# Altium integrated library memory-hitachi.IntLib: 51 symbols
Pins are listed as number, name and electrical type; pins without a type are passive.

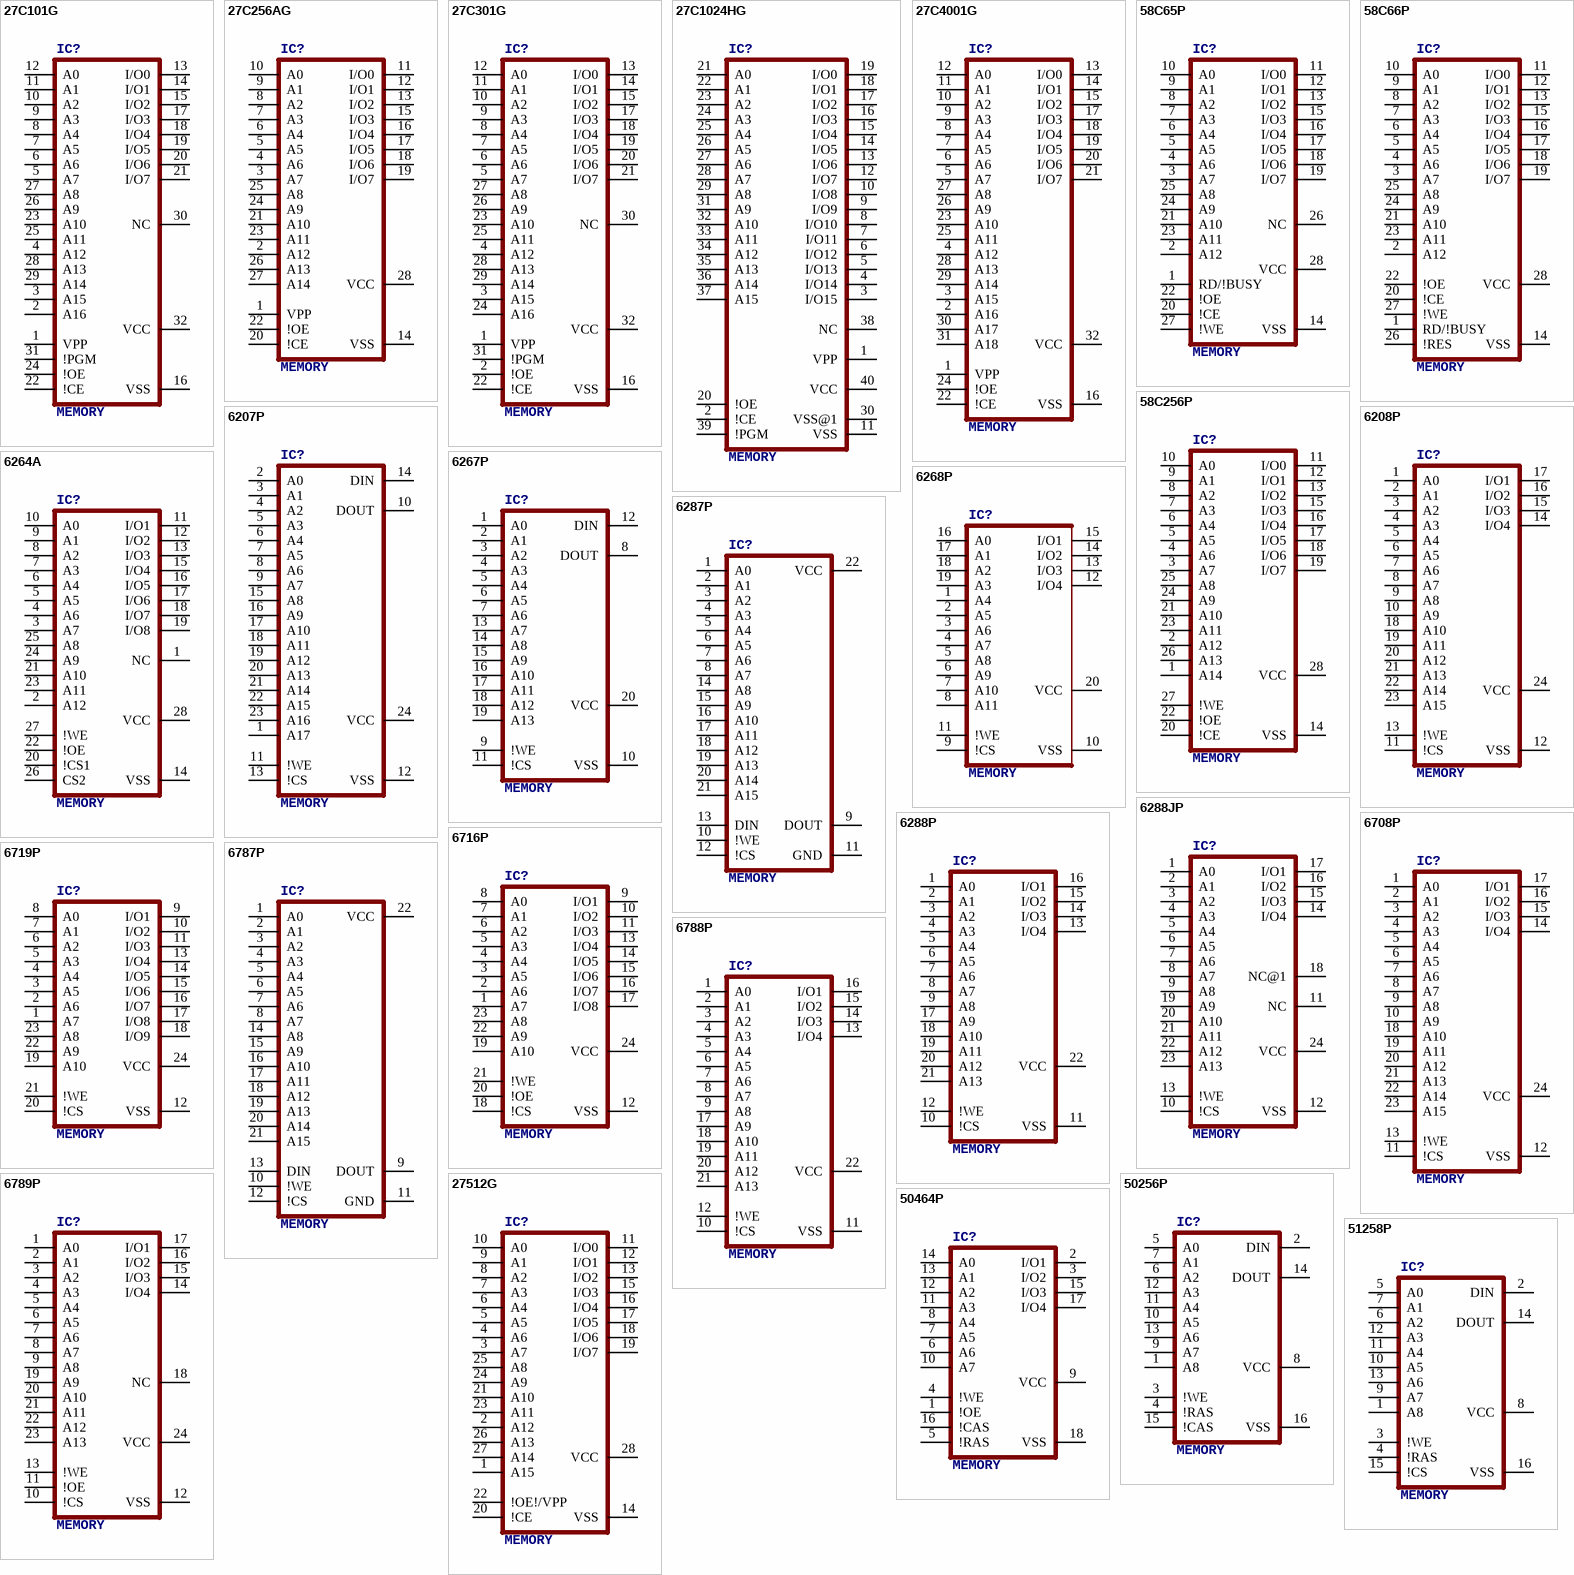
[diagram p0: symbols 27C101G to 51258P]

## 27C101G
designator IC?, comment MEMORY
OC_FARNELL: unknown; OC_NEWARK: unknown
footprint DIL32
pins: 1 VPP, 2 A16, 3 A15, 4 A12, 5 A7, 6 A6, 7 A5, 8 A4, 9 A3, 10 A2, 11 A1, 12 A0, 13 I/O0 (hiz), 14 I/O1 (hiz), 15 I/O2 (hiz), 16 VSS (power), 17 I/O3 (hiz), 18 I/O4 (hiz), 19 I/O5 (hiz), 20 I/O6 (hiz), 21 I/O7 (hiz), 22 !CE, 23 A10, 24 !OE, 25 A11, 26 A9, 27 A8, 28 A13, 29 A14, 30 NC, 31 !PGM, 32 VCC (power)

## 27C256AG
designator IC?, comment MEMORY
OC_FARNELL: unknown; OC_NEWARK: unknown
footprint DIL28-6
pins: 1 VPP, 2 A12, 3 A7, 4 A6, 5 A5, 6 A4, 7 A3, 8 A2, 9 A1, 10 A0, 11 I/O0 (hiz), 12 I/O1 (hiz), 13 I/O2 (hiz), 14 VSS (power), 15 I/O3 (hiz), 16 I/O4 (hiz), 17 I/O5 (hiz), 18 I/O6 (hiz), 19 I/O7 (hiz), 20 !CE, 21 A10, 22 !OE, 23 A11, 24 A9, 25 A8, 26 A13, 27 A14, 28 VCC (power)

## 27C301G
designator IC?, comment MEMORY
OC_FARNELL: unknown; OC_NEWARK: unknown
footprint DIL32
pins: 1 VPP, 2 !OE, 3 A15, 4 A12, 5 A7, 6 A6, 7 A5, 8 A4, 9 A3, 10 A2, 11 A1, 12 A0, 13 I/O0 (hiz), 14 I/O1 (hiz), 15 I/O2 (hiz), 16 VSS (power), 17 I/O3 (hiz), 18 I/O4 (hiz), 19 I/O5 (hiz), 20 I/O6 (hiz), 21 I/O7 (hiz), 22 !CE, 23 A10, 24 A16, 25 A11, 26 A9, 27 A8, 28 A13, 29 A14, 30 NC, 31 !PGM, 32 VCC (power)

## 27C1024HG
designator IC?, comment MEMORY
OC_FARNELL: unknown; OC_NEWARK: unknown
footprint DIL40
pins: 1 VPP, 2 !CE, 3 I/O15 (hiz), 4 I/O14 (hiz), 5 I/O13 (hiz), 6 I/O12 (hiz), 7 I/O11 (hiz), 8 I/O10 (hiz), 9 I/O9 (hiz), 10 I/O8 (hiz), 11 VSS (power), 12 I/O7 (hiz), 13 I/O6 (hiz), 14 I/O5 (hiz), 15 I/O4 (hiz), 16 I/O3 (hiz), 17 I/O2 (hiz), 18 I/O1 (hiz), 19 I/O0 (hiz), 20 !OE, 21 A0, 22 A1, 23 A2, 24 A3, 25 A4, 26 A5, 27 A6, 28 A7, 29 A8, 30 VSS@1 (power), 31 A9, 32 A10, 33 A11, 34 A12, 35 A13, 36 A14, 37 A15, 38 NC, 39 !PGM, 40 VCC (power)

## 27C4001G
designator IC?, comment MEMORY
OC_FARNELL: unknown; OC_NEWARK: unknown
footprint DIL32
pins: 1 VPP, 2 A16, 3 A15, 4 A12, 5 A7, 6 A6, 7 A5, 8 A4, 9 A3, 10 A2, 11 A1, 12 A0, 13 I/O0 (hiz), 14 I/O1 (hiz), 15 I/O2 (hiz), 16 VSS (power), 17 I/O3 (hiz), 18 I/O4 (hiz), 19 I/O5 (hiz), 20 I/O6 (hiz), 21 I/O7 (hiz), 22 !CE, 23 A10, 24 !OE, 25 A11, 26 A9, 27 A8, 28 A13, 29 A14, 30 A17, 31 A18, 32 VCC (power)

## 58C65P
designator IC?, comment MEMORY
OC_FARNELL: unknown; OC_NEWARK: unknown
footprint DIL28-6
pins: 1 RD/!BUSY, 2 A12, 3 A7, 4 A6, 5 A5, 6 A4, 7 A3, 8 A2, 9 A1, 10 A0, 11 I/O0 (hiz), 12 I/O1 (hiz), 13 I/O2 (hiz), 14 VSS (power), 15 I/O3 (hiz), 16 I/O4 (hiz), 17 I/O5 (hiz), 18 I/O6 (hiz), 19 I/O7 (hiz), 20 !CE, 21 A10, 22 !OE, 23 A11, 24 A9, 25 A8, 26 NC, 27 !WE, 28 VCC (power)

## 58C66P
designator IC?, comment MEMORY
OC_FARNELL: unknown; OC_NEWARK: unknown
footprint DIL28-6
pins: 1 RD/!BUSY, 2 A12, 3 A7, 4 A6, 5 A5, 6 A4, 7 A3, 8 A2, 9 A1, 10 A0, 11 I/O0 (hiz), 12 I/O1 (hiz), 13 I/O2 (hiz), 14 VSS (power), 15 I/O3 (hiz), 16 I/O4 (hiz), 17 I/O5 (hiz), 18 I/O6 (hiz), 19 I/O7 (hiz), 20 !CE, 21 A10, 22 !OE, 23 A11, 24 A9, 25 A8, 26 !RES, 27 !WE, 28 VCC (power)

## 58C256P
designator IC?, comment MEMORY
MPN: HN58C256AP85E; OC_FARNELL: 1496447; OC_NEWARK: 61M6616
footprint DIL28-6
pins: 1 A14, 2 A12, 3 A7, 4 A6, 5 A5, 6 A4, 7 A3, 8 A2, 9 A1, 10 A0, 11 I/O0 (hiz), 12 I/O1 (hiz), 13 I/O2 (hiz), 14 VSS (power), 15 I/O3 (hiz), 16 I/O4 (hiz), 17 I/O5 (hiz), 18 I/O6 (hiz), 19 I/O7 (hiz), 20 !CE, 21 A10, 22 !OE, 23 A11, 24 A9, 25 A8, 26 A13, 27 !WE, 28 VCC (power)

## 6207P
designator IC?, comment MEMORY
OC_FARNELL: unknown; OC_NEWARK: unknown
footprint DIL24-3
pins: 1 A17, 2 A0, 3 A1, 4 A2, 5 A3, 6 A4, 7 A5, 8 A6, 9 A7, 10 DOUT (hiz), 11 !WE, 12 VSS (power), 13 !CS, 14 DIN, 15 A8, 16 A9, 17 A10, 18 A11, 19 A12, 20 A13, 21 A14, 22 A15, 23 A16, 24 VCC (power)

## 6208P
designator IC?, comment MEMORY
MPN: L6208N; OC_FARNELL: 1271004; OC_NEWARK: 24M4237
footprint DIL24-3
pins: 1 A0, 2 A1, 3 A2, 4 A3, 5 A4, 6 A5, 7 A6, 8 A7, 9 A8, 10 A9, 11 !CS, 12 VSS (power), 13 !WE, 14 I/O4, 15 I/O3, 16 I/O2, 17 I/O1, 18 A10, 19 A11, 20 A12, 21 A13, 22 A14, 23 A15, 24 VCC (power)

## 6264A
designator IC?, comment MEMORY
OC_FARNELL: 283605; OC_NEWARK: unknown
footprint DIL28-6
pins: 1 NC, 2 A12, 3 A7, 4 A6, 5 A5, 6 A4, 7 A3, 8 A2, 9 A1, 10 A0, 11 I/O1, 12 I/O2, 13 I/O3, 14 VSS (power), 15 I/O4, 16 I/O5, 17 I/O6, 18 I/O7, 19 I/O8, 20 !CS1, 21 A10, 22 !OE, 23 A11, 24 A9, 25 A8, 26 CS2, 27 !WE, 28 VCC (power)

## 6267P
designator IC?, comment MEMORY
OC_FARNELL: unknown; OC_NEWARK: unknown
footprint DIL20
pins: 1 A0, 2 A1, 3 A2, 4 A3, 5 A4, 6 A5, 7 A6, 8 DOUT (hiz), 9 !WE, 10 VSS (power), 11 !CS, 12 DIN, 13 A7, 14 A8, 15 A9, 16 A10, 17 A11, 18 A12, 19 A13, 20 VCC (power)

## 6268P
designator IC?, comment MEMORY
OC_FARNELL: unknown; OC_NEWARK: unknown
footprint DIL20
pins: 1 A4, 2 A5, 3 A6, 4 A7, 5 A8, 6 A9, 7 A10, 8 A11, 9 !CS, 10 VSS (power), 11 !WE, 12 I/O4, 13 I/O3, 14 I/O2, 15 I/O1, 16 A0, 17 A1, 18 A2, 19 A3, 20 VCC (power)

## 6287P
designator IC?, comment MEMORY
OC_FARNELL: unknown; OC_NEWARK: unknown
footprint DIL22-3
pins: 1 A0, 2 A1, 3 A2, 4 A3, 5 A4, 6 A5, 7 A6, 8 A7, 9 DOUT (hiz), 10 !WE, 11 GND (power), 12 !CS, 13 DIN, 14 A8, 15 A9, 16 A10, 17 A11, 18 A12, 19 A13, 20 A14, 21 A15, 22 VCC (power)

## 6288JP
designator IC?, comment MEMORY
OC_FARNELL: unknown; OC_NEWARK: unknown
footprint DIL24-3
pins: 1 A0, 2 A1, 3 A2, 4 A3, 5 A4, 6 A5, 7 A6, 8 A7, 9 A8, 10 !CS, 11 NC, 12 VSS (power), 13 !WE, 14 I/O4, 15 I/O3, 16 I/O2, 17 I/O1, 18 NC@1, 19 A9, 20 A10, 21 A11, 22 A12, 23 A13, 24 VCC (power)

## 6288P
designator IC?, comment MEMORY
OC_FARNELL: unknown; OC_NEWARK: unknown
footprint DIL22-3
pins: 1 A0, 2 A1, 3 A2, 4 A3, 5 A4, 6 A5, 7 A6, 8 A7, 9 A8, 10 !CS, 11 VSS (power), 12 !WE, 13 I/O4, 14 I/O3, 15 I/O2, 16 I/O1, 17 A9, 18 A10, 19 A11, 20 A12, 21 A13, 22 VCC (power)

## 6708P
designator IC?, comment MEMORY
OC_FARNELL: unknown; OC_NEWARK: unknown
footprint DIL24-3
pins: 1 A0, 2 A1, 3 A2, 4 A3, 5 A4, 6 A5, 7 A6, 8 A7, 9 A8, 10 A9, 11 !CS, 12 VSS (power), 13 !WE, 14 I/O4, 15 I/O3, 16 I/O2, 17 I/O1, 18 A10, 19 A11, 20 A12, 21 A13, 22 A14, 23 A15, 24 VCC (power)

## 6716P
designator IC?, comment MEMORY
OC_FARNELL: unknown; OC_NEWARK: unknown
footprint DIL24-3
pins: 1 A7, 2 A6, 3 A5, 4 A4, 5 A3, 6 A2, 7 A1, 8 A0, 9 I/O1, 10 I/O2, 11 I/O3, 12 VSS (power), 13 I/O4, 14 I/O5, 15 I/O6, 16 I/O7, 17 I/O8, 18 !CS, 19 A10, 20 !OE, 21 !WE, 22 A9, 23 A8, 24 VCC (power)

## 6719P
designator IC?, comment MEMORY
OC_FARNELL: unknown; OC_NEWARK: unknown
footprint DIL24-3
pins: 1 A7, 2 A6, 3 A5, 4 A4, 5 A3, 6 A2, 7 A1, 8 A0, 9 I/O1, 10 I/O2, 11 I/O3, 12 VSS (power), 13 I/O4, 14 I/O5, 15 I/O6, 16 I/O7, 17 I/O8, 18 I/O9, 19 A10, 20 !CS, 21 !WE, 22 A9, 23 A8, 24 VCC (power)

## 6787P
designator IC?, comment MEMORY
OC_FARNELL: unknown; OC_NEWARK: unknown
footprint DIL22-3
pins: 1 A0, 2 A1, 3 A2, 4 A3, 5 A4, 6 A5, 7 A6, 8 A7, 9 DOUT (hiz), 10 !WE, 11 GND (power), 12 !CS, 13 DIN, 14 A8, 15 A9, 16 A10, 17 A11, 18 A12, 19 A13, 20 A14, 21 A15, 22 VCC (power)

## 6788P
designator IC?, comment MEMORY
OC_FARNELL: unknown; OC_NEWARK: unknown
footprint DIL22-3
pins: 1 A0, 2 A1, 3 A2, 4 A3, 5 A4, 6 A5, 7 A6, 8 A7, 9 A8, 10 !CS, 11 VSS (power), 12 !WE, 13 I/O4, 14 I/O3, 15 I/O2, 16 I/O1, 17 A9, 18 A10, 19 A11, 20 A12, 21 A13, 22 VCC (power)

## 6789P
designator IC?, comment MEMORY
OC_FARNELL: unknown; OC_NEWARK: unknown
footprint DIL24-3
pins: 1 A0, 2 A1, 3 A2, 4 A3, 5 A4, 6 A5, 7 A6, 8 A7, 9 A8, 10 !CS, 11 !OE, 12 VSS (power), 13 !WE, 14 I/O4, 15 I/O3, 16 I/O2, 17 I/O1, 18 NC, 19 A9, 20 A10, 21 A11, 22 A12, 23 A13, 24 VCC (power)

## 27512G
designator IC?, comment MEMORY
OC_FARNELL: unknown; OC_NEWARK: unknown
footprint DIL28-6
pins: 1 A15, 2 A12, 3 A7, 4 A6, 5 A5, 6 A4, 7 A3, 8 A2, 9 A1, 10 A0, 11 I/O0 (hiz), 12 I/O1 (hiz), 13 I/O2 (hiz), 14 VSS (power), 15 I/O3 (hiz), 16 I/O4 (hiz), 17 I/O5 (hiz), 18 I/O6 (hiz), 19 I/O7 (hiz), 20 !CE, 21 A10, 22 !OE!/VPP, 23 A11, 24 A9, 25 A8, 26 A13, 27 A14, 28 VCC (power)

## 50256P
designator IC?, comment MEMORY
OC_FARNELL: unknown; OC_NEWARK: unknown
footprint DIL16
pins: 1 A8, 2 DIN, 3 !WE, 4 !RAS, 5 A0, 6 A2, 7 A1, 8 VCC (power), 9 A7, 10 A5, 11 A4, 12 A3, 13 A6, 14 DOUT (hiz), 15 !CAS, 16 VSS (power)

## 50464P
designator IC?, comment MEMORY
OC_FARNELL: unknown; OC_NEWARK: unknown
footprint DIL18
pins: 1 !OE, 2 I/O1, 3 I/O2, 4 !WE, 5 !RAS, 6 A6, 7 A5, 8 A4, 9 VCC (power), 10 A7, 11 A3, 12 A2, 13 A1, 14 A0, 15 I/O3, 16 !CAS, 17 I/O4, 18 VSS (power)

## 51258P
designator IC?, comment MEMORY
OC_FARNELL: unknown; OC_NEWARK: unknown
footprint DIL16
pins: 1 A8, 2 DIN, 3 !WE, 4 !RAS, 5 A0, 6 A2, 7 A1, 8 VCC (power), 9 A7, 10 A5, 11 A4, 12 A3, 13 A6, 14 DOUT (hiz), 15 !CS, 16 VSS (power)

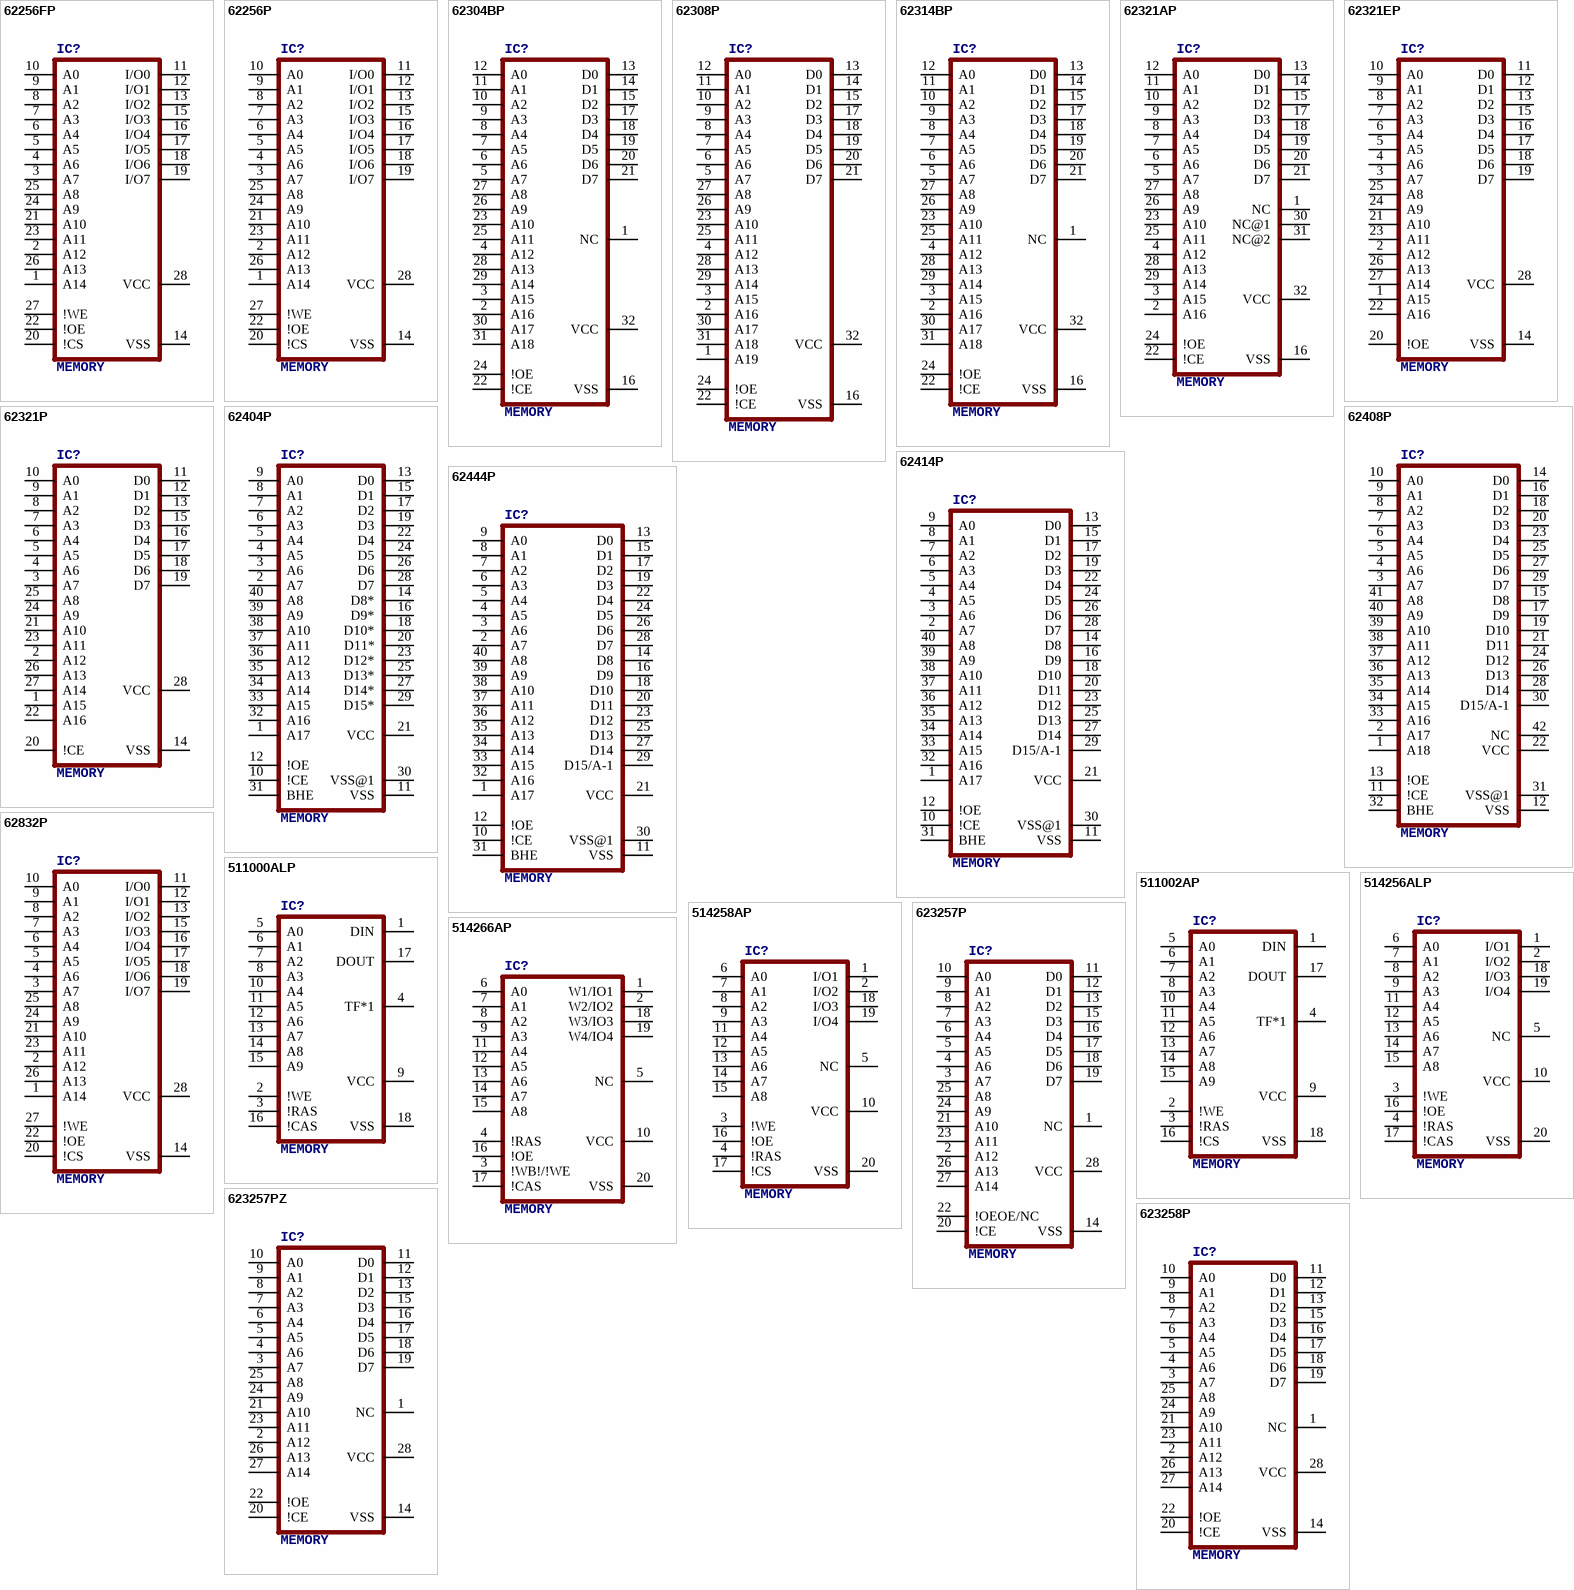
[diagram p1: symbols 62256FP to 623258P]

## 62256FP
designator IC?, comment MEMORY
MPN: CY62256VNLL-70SNXI; OC_FARNELL: 1650073; OC_NEWARK: 19M2582
footprint SO28L
pins: 1 A14, 2 A12, 3 A7, 4 A6, 5 A5, 6 A4, 7 A3, 8 A2, 9 A1, 10 A0, 11 I/O0, 12 I/O1, 13 I/O2, 14 VSS (power), 15 I/O3, 16 I/O4, 17 I/O5, 18 I/O6, 19 I/O7, 20 !CS, 21 A10, 22 !OE, 23 A11, 24 A9, 25 A8, 26 A13, 27 !WE, 28 VCC (power)

## 62256P
designator IC?, comment MEMORY
OC_FARNELL: unknown; OC_NEWARK: unknown
footprint DIL28-6
pins: 1 A14, 2 A12, 3 A7, 4 A6, 5 A5, 6 A4, 7 A3, 8 A2, 9 A1, 10 A0, 11 I/O0, 12 I/O1, 13 I/O2, 14 VSS (power), 15 I/O3, 16 I/O4, 17 I/O5, 18 I/O6, 19 I/O7, 20 !CS, 21 A10, 22 !OE, 23 A11, 24 A9, 25 A8, 26 A13, 27 !WE, 28 VCC (power)

## 62304BP
designator IC?, comment MEMORY
OC_FARNELL: unknown; OC_NEWARK: unknown
footprint DIL32
pins: 1 NC, 2 A16, 3 A15, 4 A12, 5 A7, 6 A6, 7 A5, 8 A4, 9 A3, 10 A2, 11 A1, 12 A0, 13 D0 (hiz), 14 D1 (hiz), 15 D2 (hiz), 16 VSS (power), 17 D3 (hiz), 18 D4 (hiz), 19 D5 (hiz), 20 D6 (hiz), 21 D7 (hiz), 22 !CE, 23 A10, 24 !OE, 25 A11, 26 A9, 27 A8, 28 A13, 29 A14, 30 A17, 31 A18, 32 VCC (power)

## 62308P
designator IC?, comment MEMORY
OC_FARNELL: unknown; OC_NEWARK: unknown
footprint DIL32
pins: 1 A19, 2 A16, 3 A15, 4 A12, 5 A7, 6 A6, 7 A5, 8 A4, 9 A3, 10 A2, 11 A1, 12 A0, 13 D0 (hiz), 14 D1 (hiz), 15 D2 (hiz), 16 VSS (power), 17 D3 (hiz), 18 D4 (hiz), 19 D5 (hiz), 20 D6 (hiz), 21 D7 (hiz), 22 !CE, 23 A10, 24 !OE, 25 A11, 26 A9, 27 A8, 28 A13, 29 A14, 30 A17, 31 A18, 32 VCC (power)

## 62314BP
designator IC?, comment MEMORY
OC_FARNELL: unknown; OC_NEWARK: unknown
footprint DIL32
pins: 1 NC, 2 A16, 3 A15, 4 A12, 5 A7, 6 A6, 7 A5, 8 A4, 9 A3, 10 A2, 11 A1, 12 A0, 13 D0 (hiz), 14 D1 (hiz), 15 D2 (hiz), 16 VSS (power), 17 D3 (hiz), 18 D4 (hiz), 19 D5 (hiz), 20 D6 (hiz), 21 D7 (hiz), 22 !CE, 23 A10, 24 !OE, 25 A11, 26 A9, 27 A8, 28 A13, 29 A14, 30 A17, 31 A18, 32 VCC (power)

## 62321AP
designator IC?, comment MEMORY
OC_FARNELL: unknown; OC_NEWARK: unknown
footprint DIL32
pins: 1 NC, 2 A16, 3 A15, 4 A12, 5 A7, 6 A6, 7 A5, 8 A4, 9 A3, 10 A2, 11 A1, 12 A0, 13 D0 (hiz), 14 D1 (hiz), 15 D2 (hiz), 16 VSS (power), 17 D3 (hiz), 18 D4 (hiz), 19 D5 (hiz), 20 D6 (hiz), 21 D7 (hiz), 22 !CE, 23 A10, 24 !OE, 25 A11, 26 A9, 27 A8, 28 A13, 29 A14, 30 NC@1, 31 NC@2, 32 VCC (power)

## 62321EP
designator IC?, comment MEMORY
OC_FARNELL: unknown; OC_NEWARK: unknown
footprint DIL28-6
pins: 1 A15, 2 A12, 3 A7, 4 A6, 5 A5, 6 A4, 7 A3, 8 A2, 9 A1, 10 A0, 11 D0 (hiz), 12 D1 (hiz), 13 D2 (hiz), 14 VSS (power), 15 D3 (hiz), 16 D4 (hiz), 17 D5 (hiz), 18 D6 (hiz), 19 D7 (hiz), 20 !OE, 21 A10, 22 A16, 23 A11, 24 A9, 25 A8, 26 A13, 27 A14, 28 VCC (power)

## 62321P
designator IC?, comment MEMORY
OC_FARNELL: unknown; OC_NEWARK: unknown
footprint DIL28-6
pins: 1 A15, 2 A12, 3 A7, 4 A6, 5 A5, 6 A4, 7 A3, 8 A2, 9 A1, 10 A0, 11 D0 (hiz), 12 D1 (hiz), 13 D2 (hiz), 14 VSS (power), 15 D3 (hiz), 16 D4 (hiz), 17 D5 (hiz), 18 D6 (hiz), 19 D7 (hiz), 20 !CE, 21 A10, 22 A16, 23 A11, 24 A9, 25 A8, 26 A13, 27 A14, 28 VCC (power)

## 62404P
designator IC?, comment MEMORY
OC_FARNELL: unknown; OC_NEWARK: unknown
footprint DIL42
pins: 1 A17, 2 A7, 3 A6, 4 A5, 5 A4, 6 A3, 7 A2, 8 A1, 9 A0, 10 !CE, 11 VSS (power), 12 !OE, 13 D0 (hiz), 14 D8* (hiz), 15 D1 (hiz), 16 D9* (hiz), 17 D2 (hiz), 18 D10* (hiz), 19 D3 (hiz), 20 D11* (hiz), 21 VCC (power), 22 D4 (hiz), 23 D12* (hiz), 24 D5 (hiz), 25 D13* (hiz), 26 D6 (hiz), 27 D14* (hiz), 28 D7 (hiz), 29 D15* (hiz), 30 VSS@1 (power), 31 BHE, 32 A16, 33 A15, 34 A14, 35 A13, 36 A12, 37 A11, 38 A10, 39 A9, 40 A8

## 62408P
designator IC?, comment MEMORY
OC_FARNELL: unknown; OC_NEWARK: unknown
footprint DIL42
pins: 1 A18, 2 A17, 3 A7, 4 A6, 5 A5, 6 A4, 7 A3, 8 A2, 9 A1, 10 A0, 11 !CE, 12 VSS (power), 13 !OE, 14 D0 (hiz), 15 D8 (hiz), 16 D1 (hiz), 17 D9 (hiz), 18 D2 (hiz), 19 D10 (hiz), 20 D3 (hiz), 21 D11 (hiz), 22 VCC (power), 23 D4 (hiz), 24 D12 (hiz), 25 D5 (hiz), 26 D13 (hiz), 27 D6 (hiz), 28 D14 (hiz), 29 D7 (hiz), 30 D15/A-1 (hiz), 31 VSS@1 (power), 32 BHE, 33 A16, 34 A15, 35 A14, 36 A13, 37 A12, 38 A11, 39 A10, 40 A9, 41 A8, 42 NC

## 62414P
designator IC?, comment MEMORY
OC_FARNELL: unknown; OC_NEWARK: unknown
footprint DIL40
pins: 1 A17, 2 A7, 3 A6, 4 A5, 5 A4, 6 A3, 7 A2, 8 A1, 9 A0, 10 !CE, 11 VSS (power), 12 !OE, 13 D0 (hiz), 14 D8 (hiz), 15 D1 (hiz), 16 D9 (hiz), 17 D2 (hiz), 18 D10 (hiz), 19 D3 (hiz), 20 D11 (hiz), 21 VCC (power), 22 D4 (hiz), 23 D12 (hiz), 24 D5 (hiz), 25 D13 (hiz), 26 D6 (hiz), 27 D14 (hiz), 28 D7 (hiz), 29 D15/A-1 (hiz), 30 VSS@1 (power), 31 BHE, 32 A16, 33 A15, 34 A14, 35 A13, 36 A12, 37 A11, 38 A10, 39 A9, 40 A8

## 62444P
designator IC?, comment MEMORY
OC_FARNELL: unknown; OC_NEWARK: unknown
footprint DIL40
pins: 1 A17, 2 A7, 3 A6, 4 A5, 5 A4, 6 A3, 7 A2, 8 A1, 9 A0, 10 !CE, 11 VSS (power), 12 !OE, 13 D0 (hiz), 14 D8 (hiz), 15 D1 (hiz), 16 D9 (hiz), 17 D2 (hiz), 18 D10 (hiz), 19 D3 (hiz), 20 D11 (hiz), 21 VCC (power), 22 D4 (hiz), 23 D12 (hiz), 24 D5 (hiz), 25 D13 (hiz), 26 D6 (hiz), 27 D14 (hiz), 28 D7 (hiz), 29 D15/A-1 (hiz), 30 VSS@1 (power), 31 BHE, 32 A16, 33 A15, 34 A14, 35 A13, 36 A12, 37 A11, 38 A10, 39 A9, 40 A8

## 62832P
designator IC?, comment MEMORY
OC_FARNELL: unknown; OC_NEWARK: unknown
footprint DIL28-3
pins: 1 A14, 2 A12, 3 A7, 4 A6, 5 A5, 6 A4, 7 A3, 8 A2, 9 A1, 10 A0, 11 I/O0, 12 I/O1, 13 I/O2, 14 VSS (power), 15 I/O3, 16 I/O4, 17 I/O5, 18 I/O6, 19 I/O7, 20 !CS, 21 A10, 22 !OE, 23 A11, 24 A9, 25 A8, 26 A13, 27 !WE, 28 VCC (power)

## 511000ALP
designator IC?, comment MEMORY
OC_FARNELL: unknown; OC_NEWARK: unknown
footprint DIL18
pins: 1 DIN, 2 !WE, 3 !RAS, 4 TF*1, 5 A0, 6 A1, 7 A2, 8 A3, 9 VCC (power), 10 A4, 11 A5, 12 A6, 13 A7, 14 A8, 15 A9, 16 !CAS, 17 DOUT (hiz), 18 VSS (power)

## 511002AP
designator IC?, comment MEMORY
OC_FARNELL: unknown; OC_NEWARK: unknown
footprint DIL18
pins: 1 DIN, 2 !WE, 3 !RAS, 4 TF*1, 5 A0, 6 A1, 7 A2, 8 A3, 9 VCC (power), 10 A4, 11 A5, 12 A6, 13 A7, 14 A8, 15 A9, 16 !CS, 17 DOUT (hiz), 18 VSS (power)

## 514256ALP
designator IC?, comment MEMORY
OC_FARNELL: unknown; OC_NEWARK: unknown
footprint DIL20
pins: 1 I/O1, 2 I/O2, 3 !WE, 4 !RAS, 5 NC, 6 A0, 7 A1, 8 A2, 9 A3, 10 VCC (power), 11 A4, 12 A5, 13 A6, 14 A7, 15 A8, 16 !OE, 17 !CAS, 18 I/O3, 19 I/O4, 20 VSS (power)

## 514258AP
designator IC?, comment MEMORY
OC_FARNELL: unknown; OC_NEWARK: unknown
footprint DIL20
pins: 1 I/O1, 2 I/O2, 3 !WE, 4 !RAS, 5 NC, 6 A0, 7 A1, 8 A2, 9 A3, 10 VCC (power), 11 A4, 12 A5, 13 A6, 14 A7, 15 A8, 16 !OE, 17 !CS, 18 I/O3, 19 I/O4, 20 VSS (power)

## 514266AP
designator IC?, comment MEMORY
OC_FARNELL: unknown; OC_NEWARK: unknown
footprint DIL20
pins: 1 W1/IO1, 2 W2/IO2, 3 !WB!/!WE, 4 !RAS, 5 NC, 6 A0, 7 A1, 8 A2, 9 A3, 10 VCC (power), 11 A4, 12 A5, 13 A6, 14 A7, 15 A8, 16 !OE, 17 !CAS, 18 W3/IO3, 19 W4/IO4, 20 VSS (power)

## 623257P
designator IC?, comment MEMORY
OC_FARNELL: unknown; OC_NEWARK: unknown
footprint DIL28-6
pins: 1 NC, 2 A12, 3 A7, 4 A6, 5 A5, 6 A4, 7 A3, 8 A2, 9 A1, 10 A0, 11 D0 (hiz), 12 D1 (hiz), 13 D2 (hiz), 14 VSS (power), 15 D3 (hiz), 16 D4 (hiz), 17 D5 (hiz), 18 D6 (hiz), 19 D7 (hiz), 20 !CE, 21 A10, 22 !OEOE/NC, 23 A11, 24 A9, 25 A8, 26 A13, 27 A14, 28 VCC (power)

## 623257PZ
designator IC?, comment MEMORY
OC_FARNELL: unknown; OC_NEWARK: unknown
footprint DIL28-6
pins: 1 NC, 2 A12, 3 A7, 4 A6, 5 A5, 6 A4, 7 A3, 8 A2, 9 A1, 10 A0, 11 D0 (hiz), 12 D1 (hiz), 13 D2 (hiz), 14 VSS (power), 15 D3 (hiz), 16 D4 (hiz), 17 D5 (hiz), 18 D6 (hiz), 19 D7 (hiz), 20 !CE, 21 A10, 22 !OE, 23 A11, 24 A9, 25 A8, 26 A13, 27 A14, 28 VCC (power)

## 623258P
designator IC?, comment MEMORY
OC_FARNELL: unknown; OC_NEWARK: unknown
footprint DIL28-6
pins: 1 NC, 2 A12, 3 A7, 4 A6, 5 A5, 6 A4, 7 A3, 8 A2, 9 A1, 10 A0, 11 D0 (hiz), 12 D1 (hiz), 13 D2 (hiz), 14 VSS (power), 15 D3 (hiz), 16 D4 (hiz), 17 D5 (hiz), 18 D6 (hiz), 19 D7 (hiz), 20 !CE, 21 A10, 22 !OE, 23 A11, 24 A9, 25 A8, 26 A13, 27 A14, 28 VCC (power)

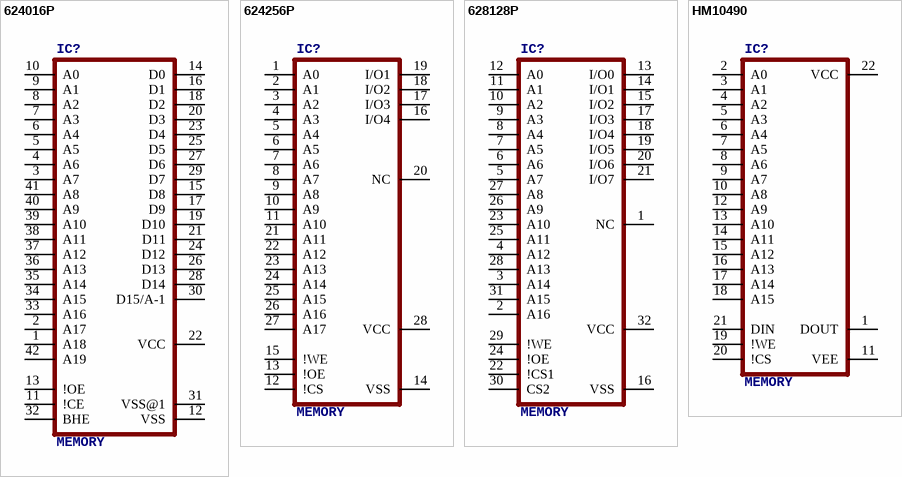
[diagram p2: symbols 624016P to HM10490]

## 624016P
designator IC?, comment MEMORY
OC_FARNELL: unknown; OC_NEWARK: unknown
footprint DIL42
pins: 1 A18, 2 A17, 3 A7, 4 A6, 5 A5, 6 A4, 7 A3, 8 A2, 9 A1, 10 A0, 11 !CE, 12 VSS (power), 13 !OE, 14 D0 (hiz), 15 D8 (hiz), 16 D1 (hiz), 17 D9 (hiz), 18 D2 (hiz), 19 D10 (hiz), 20 D3 (hiz), 21 D11 (hiz), 22 VCC (power), 23 D4 (hiz), 24 D12 (hiz), 25 D5 (hiz), 26 D13 (hiz), 27 D6 (hiz), 28 D14 (hiz), 29 D7 (hiz), 30 D15/A-1 (hiz), 31 VSS@1 (power), 32 BHE, 33 A16, 34 A15, 35 A14, 36 A13, 37 A12, 38 A11, 39 A10, 40 A9, 41 A8, 42 A19

## 624256P
designator IC?, comment MEMORY
OC_FARNELL: unknown; OC_NEWARK: unknown
footprint DIL28-4
pins: 1 A0, 2 A1, 3 A2, 4 A3, 5 A4, 6 A5, 7 A6, 8 A7, 9 A8, 10 A9, 11 A10, 12 !CS, 13 !OE, 14 VSS (power), 15 !WE, 16 I/O4, 17 I/O3, 18 I/O2, 19 I/O1, 20 NC, 21 A11, 22 A12, 23 A13, 24 A14, 25 A15, 26 A16, 27 A17, 28 VCC (power)

## 628128P
designator IC?, comment MEMORY
OC_FARNELL: unknown; OC_NEWARK: unknown
footprint DIL32
pins: 1 NC, 2 A16, 3 A14, 4 A12, 5 A7, 6 A6, 7 A5, 8 A4, 9 A3, 10 A2, 11 A1, 12 A0, 13 I/O0, 14 I/O1, 15 I/O2, 16 VSS (power), 17 I/O3, 18 I/O4, 19 I/O5, 20 I/O6, 21 I/O7, 22 !CS1, 23 A10, 24 !OE, 25 A11, 26 A9, 27 A8, 28 A13, 29 !WE, 30 CS2, 31 A15, 32 VCC (power)

## HM10490
designator IC?, comment MEMORY
OC_FARNELL: unknown; OC_NEWARK: unknown
footprint DIL22-3
pins: 1 DOUT (hiz), 2 A0, 3 A1, 4 A2, 5 A3, 6 A4, 7 A5, 8 A6, 9 A7, 10 A8, 11 VEE (power), 12 A9, 13 A10, 14 A11, 15 A12, 16 A13, 17 A14, 18 A15, 19 !WE, 20 !CS, 21 DIN, 22 VCC (power)